# EAGLE library part S401M14TF (library DonB)
Lumex LCD-S401M14TF. Four digit 7-segment LCD display with pressure indicators.
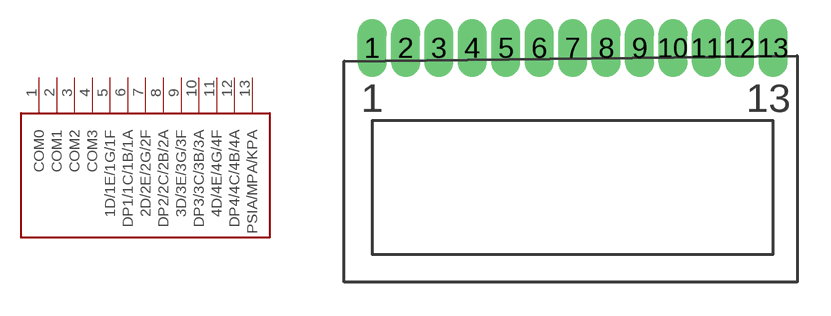
[diagram p0: symbol with the pads of S401M14TF; footprint S401M14TF]

Designator prefix -

## S401M14TF  [S401M14TF]
1  COM0
2  COM1
3  COM2
4  COM3
5  1D/1E/1G/1F
6  DP1/1C/1B/1A
7  2D/2E/2G/2F
8  DP2/2C/2B/2A
9  3D/3E/3G/3F
10  DP3/3C/3B/3A
11  4D/4E/4G/4F
12  DP4/4C/4B/4A
13  PSIA/MPA/KPA

## Footprint S401M14TF (pad centres in mm)
Four digit 7-segment LCD panel with pressure indicators.
drill 0.8 long: 1 1.25,10.5; 2 2.75,10.5; 3 4.25,10.5; 4 5.75,10.5; 5 7.25,10.5; 6 8.75,10.5; 7 10.25,10.5; 8 11.75,10.5; 9 13.25,10.5; 10 14.75,10.5; 11 16.25,10.5; 12 17.75,10.5; 13 19.25,10.5